# Altium footprint library czc.PcbLib: 157 footprints (part 4 of 10)
Each footprint in its own frame and in the unit in brackets; x right, y up, seen from the top. Pads: shape width x height; smd on the part's side, far side on the other; paste and mask are expansions set on the pad; w line width, h text height; cw(c..) or ccw(c..) is an arc to the next point about the centre after c.
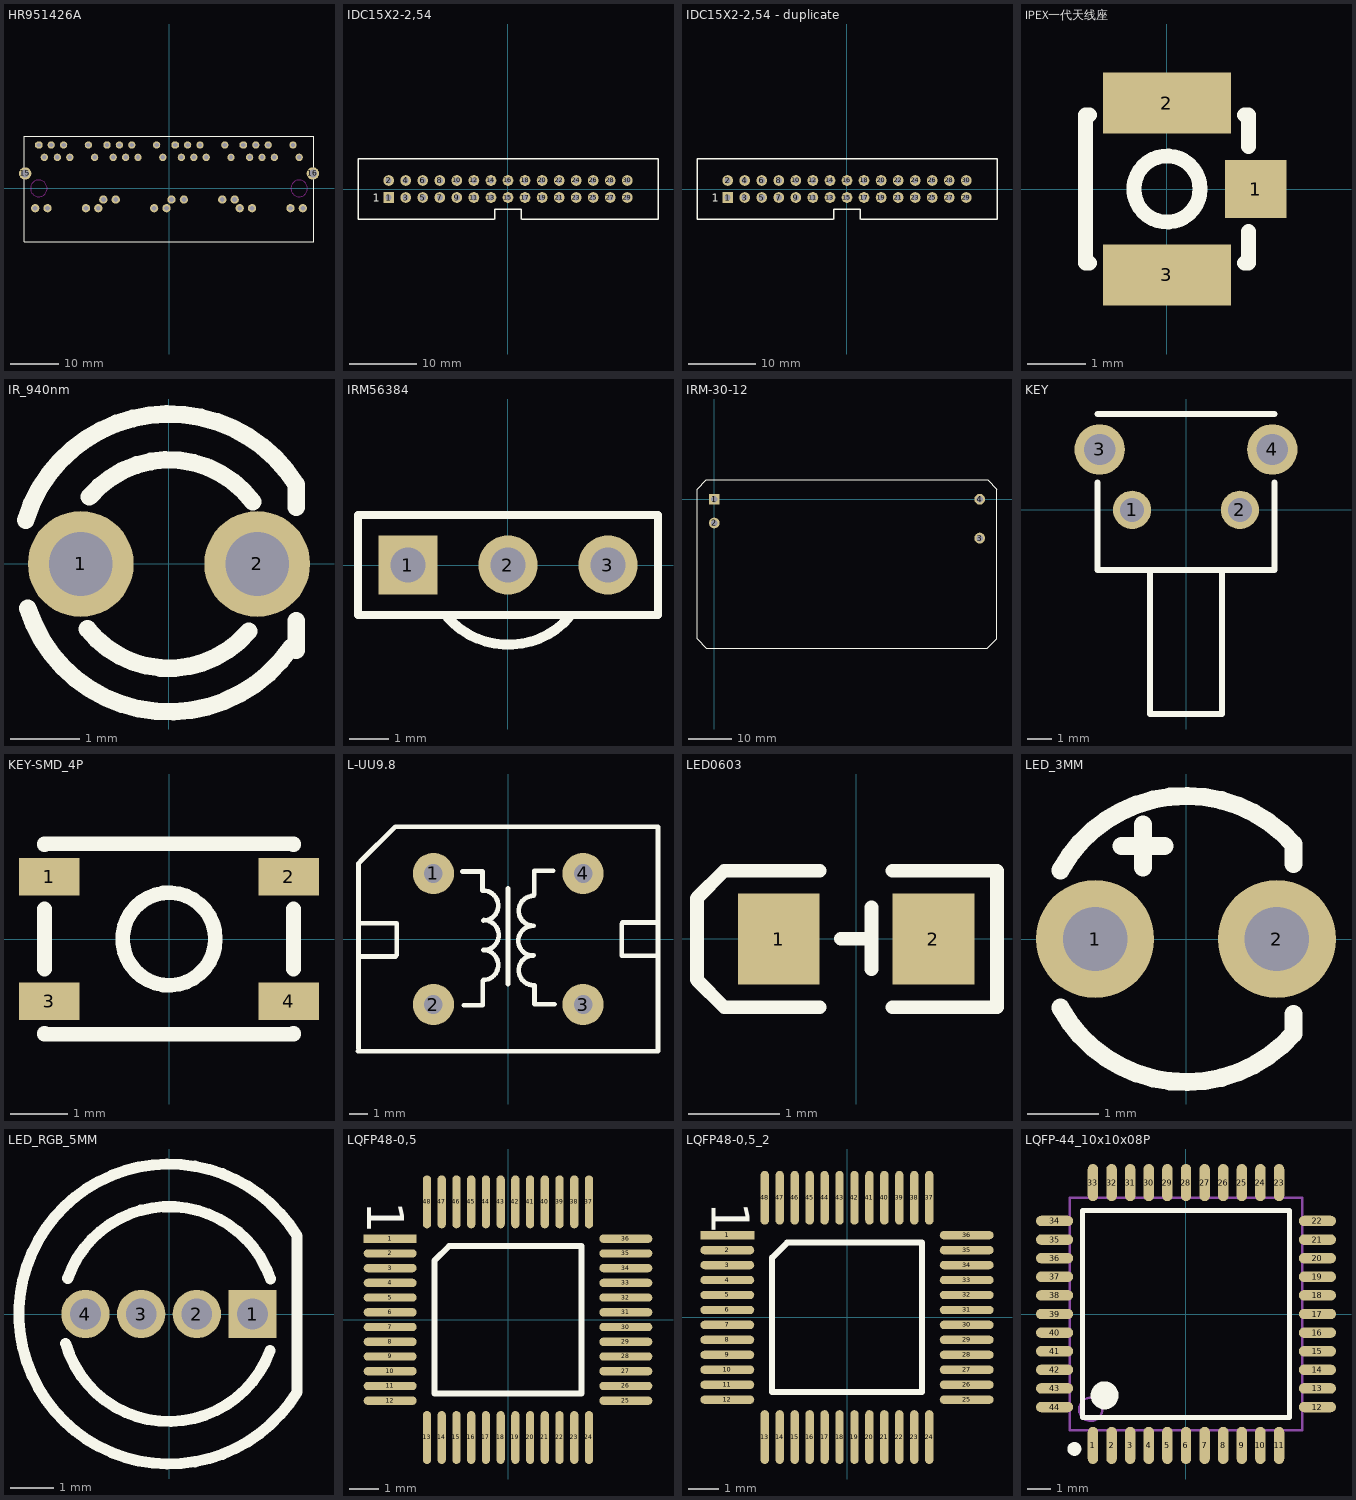
[diagram p3: the footprints below, top view; thin cyan lines are the x and y axes]

## HR951426A [mm] "RJ45*4"
pads (50):
  round 2.54 hole 1.63: 15(-29.455,3.05) 16(29.455,3.05)
  oct 1.5x1.5 hole 0.9: A1(-26.67,8.89) B1(-12.7,8.89) C1(1.27,8.89) D1(15.24,8.89)
  round 1.5 hole 0.9: A2(-25.54,6.351) A3(-24.13,8.89) A4(-22.86,6.351) A5(-21.59,8.89) A6(-20.32,6.351) A9(-16.51,8.89) A10(-15.24,6.351) B2(-11.43,6.351) B3(-10.16,8.89) B4(-8.89,6.351) B5(-7.62,8.89) B6(-6.35,6.351) B9(-2.54,8.89) B10(-1.27,6.351) C2(2.54,6.351) C3(3.81,8.89) C4(5.08,6.351) C5(6.35,8.89) C6(7.62,6.351) C9(11.43,8.89) C10(12.7,6.351) D2(16.51,6.351) D3(17.78,8.89) D4(19.05,6.351) D5(20.32,8.89) D6(21.59,6.351) D9(25.4,8.89) D10(26.67,6.351)
  round 1.7 hole 1: A11(-27.42,-4.06) A12(-24.88,-4.06) A13(-17.02,-4.06) A14(-14.48,-4.06) B11(-13.45,-2.29) B12(-10.91,-2.29) B13(-3.05,-4.06) B14(-0.51,-4.06) C11(0.51,-2.29) C12(3.05,-2.29) C13(10.91,-2.29) C14(13.45,-2.29) D11(14.48,-4.06) D12(17.02,-4.06) D13(24.88,-4.06) D14(27.42,-4.06)
Top Overlay:
  lines w0.254: -29.615,-10.922 -29.615,10.68 29.615,10.68 ; -29.615,-10.92 29.615,-10.92 ; 29.615,-10.934 29.615,10.668
Keep-Out Layer:
  circle w0.1: c26.67,0 r1.7
  circle w0.1: c-26.67,0 r1.7

## IDC15X2-2,54 [mm]
pads (30):
  rect 1.6x1.6 hole 0.9: 1(-17.78,-1.27)
  round 1.6 hole 0.9: 2(-17.78,1.27) 3(-15.24,-1.27) 4(-15.24,1.27) 5(-12.7,-1.27) 6(-12.7,1.27) 7(-10.16,-1.27) 8(-10.16,1.27) 9(-7.62,-1.27) 10(-7.62,1.27) 11(-5.08,-1.27) 12(-5.08,1.27) 13(-2.54,-1.27) 14(-2.54,1.27) 15(0,-1.27) 16(0,1.27) 17(2.54,-1.27) 18(2.54,1.27) 19(5.08,-1.27) 20(5.08,1.27) 21(7.62,-1.27) 22(7.62,1.27) 23(10.16,-1.27) 24(10.16,1.27) 25(12.7,-1.27) 26(12.7,1.27) 27(15.24,-1.27) 28(15.24,1.27) 29(17.78,-1.27) 30(17.78,1.27)
Top Overlay:
  lines w0.2: -2.032,-4.53 -22.35,-4.53 -22.35,4.53 22.352,4.53 22.352,-4.53 2.032,-4.53 ; -2,-4.53 -2,-3.048 2,-3.048 2,-4.53
  text "1" at -20.18,-1.87 h1.2

## IDC15X2-2,54 - duplicate [mm]
pads (30):
  rect 1.6x1.6 hole 0.9: 1(-17.78,-1.27)
  round 1.6 hole 0.9: 2(-17.78,1.27) 3(-15.24,-1.27) 4(-15.24,1.27) 5(-12.7,-1.27) 6(-12.7,1.27) 7(-10.16,-1.27) 8(-10.16,1.27) 9(-7.62,-1.27) 10(-7.62,1.27) 11(-5.08,-1.27) 12(-5.08,1.27) 13(-2.54,-1.27) 14(-2.54,1.27) 15(0,-1.27) 16(0,1.27) 17(2.54,-1.27) 18(2.54,1.27) 19(5.08,-1.27) 20(5.08,1.27) 21(7.62,-1.27) 22(7.62,1.27) 23(10.16,-1.27) 24(10.16,1.27) 25(12.7,-1.27) 26(12.7,1.27) 27(15.24,-1.27) 28(15.24,1.27) 29(17.78,-1.27) 30(17.78,1.27)
Top Overlay:
  lines w0.2: -2.032,-4.53 -22.35,-4.53 -22.35,4.53 22.352,4.53 22.352,-4.53 2.032,-4.53 ; -2,-4.53 -2,-3.048 2,-3.048 2,-4.53
  text "1" at -20.18,-1.87 h1.2

## IPEX一代天线座 [mm]
pads (3):
  rect 1.05x1 smd: 1(1.524,0)
  rect 2.2x1.05 smd: 2(-0.001,1.475) 3(-0.001,-1.475)
Top Overlay:
  circle w0.254: c0,0 r0.568
  lines w0.254: -1.332,-1.27 -1.397,-1.27 -1.397,1.27 -1.332,1.27 ; 1.331,-1.27 1.397,-1.27 1.397,-0.731 ; 1.331,1.27 1.397,1.27 1.397,0.731

## IR_940nm [mil]
pads (2):
  round 60 hole 36: 1(-50,0) 2(50,0)
Top Overlay:
  lines w10: -81.26,24.92 cw(c0,0) 72.06,45.07 72.06,32.26 ; -80,-25 ccw(c0,0) 69.33,-47.11 ; -46.19,-36.85 ccw(c0,0) 45.22,-38.03 ; -45.12,38.07 cw(c0,0) 47.36,35.24 ; 72.06,-48.97 72.06,-32.26

## IRM56384 [mm]
pads (3):
  rect 1.5x1.5 hole 0.9: 1(-2.54,0)
  round 1.5 hole 0.9: 2(0,0) 3(2.54,0)
Top Overlay:
  lines w0.2: -3.81,-1.27 3.81,-1.27 3.81,1.27 -3.81,1.27 -3.81,-1.27
  lines w0.254: -1.542,-1.318 ccw(c0.008,0.026) 1.552,-1.326

## IRM-30-12 [mm] "39*69.5MM"
pads (4):
  rect 2.5x2.5 hole 1.5: 1(0.001,0)
  round 2.5 hole 1.5: 2(0,-5.5) 3(61.5,-9) 4(61.5,0)
Top Overlay:
  lines w0.203: -4,-32.322 -4,2.35 -1.85,4.5 63.318,4.5 65.5,2.318 65.5,-32.29 63.29,-34.5 -1.822,-34.5 -4,-32.322

## KEY [mm] "侧插按键"
pads (4):
  round 1.6 hole 1: 1(-2.25,0) 2(2.25,0)
  round 2.1 hole 1.3: 3(-3.6,2.52) 4(3.6,2.52)
Top Overlay:
  lines w0.254: -3.683,1.143 -3.683,-2.5 3.683,-2.5 3.683,1.143 ; -3.683,4 3.683,4 ; -1.5,-2.54 -1.5,-8.509 1.5,-8.509 1.5,-2.54

## KEY-SMD_4P [mm]
pads (4):
  rect 1.05x0.65 smd: 1(-2.075,1.075) 2(2.075,1.075) 3(-2.075,-1.075) 4(2.075,-1.075)
Top Overlay:
  circle w0.254: c0,0 r0.803
  lines w0.254: -2.159,-1.631 -2.159,-1.651 2.159,-1.651 2.159,-1.631 ; -2.159,-0.519 -2.159,0.519 ; -2.159,1.631 -2.159,1.651 2.159,1.651 2.159,1.631 ; 2.159,-0.519 2.159,0.519

## L-UU9.8 [mm]
pads (4):
  round 2.2 hole 1: 1(-4,3.5) 2(-4,-3.5) 3(4,-3.5) 4(4,3.5)
Top Overlay:
  lines w0.254: -8.026,-5.994 7.976,-5.994 ; -8,-5.851 -8,4.039 ; -7.899,4.14 -6.04,6 7.95,6 ; -7.862,-0.935 -6.008,-0.935 ; -7.836,0.843 -5.957,0.843 ; -5.957,-0.858 -5.957,0.83 ; -2.451,3.602 -1.373,3.602 -1.373,2.586 ; -2.374,-3.536 -1.358,-3.536 -1.358,-2.242 ; -1.333,-2.19 ccw(c-1.333,-1.39) -1.333,-0.59 ; -1.333,0.985 ccw(c-1.333,1.785) -1.333,2.585 ; -1.308,-0.589 ccw(c-1.308,0.211) -1.308,1.011 ; -0.012,-2.418 -0.012,2.713 ; 1.334,-0.894 cw(c1.334,-0.094) 1.334,0.706 ; 1.359,-2.469 cw(c1.359,-1.669) 1.359,-0.869 ; 1.359,0.706 cw(c1.359,1.506) 1.359,2.306 ; 1.385,2.359 1.385,3.652 2.401,3.652 ; 1.399,-2.469 1.399,-3.485 2.477,-3.485 ; 6.058,-0.894 7.938,-0.894 ; 6.058,-0.881 6.058,0.808 ; 6.109,0.884 7.963,0.884 ; 8,-6 8,6

## LED0603 [mm]
pads (2):
  rect 0.9x1 smd: 1(-0.85,0) 2(0.85,0)
Top Overlay:
  lines w0.15: -0.4,-0.75 -1.45,-0.75 -1.75,-0.45 -1.75,-0.35 -1.75,0.35 -1.75,0.45 -1.45,0.75 -0.4,0.75 ; -0.17,0.002 0.17,0.002 ; 0.17,-0.33 0.17,0.35 ; 0.4,-0.75 1.55,-0.75 ; 0.4,0.75 1.55,0.75 ; 1.55,-0.73 1.55,0.75

## LED_3MM [mil]
pads (2):
  round 65 hole 35.43: 1(-50,0) 2(50,0)
Top Overlay:
  lines w10: -69.07,-37.8 ccw(c0,0) 59.05,-52.08 59.05,-41.36 ; -69.07,37.8 cw(c0,0) 59.05,52.08 59.05,41.36 ; -35.43,51.18 -11.81,51.18 ; -23.62,39.37 -23.62,62.99

## LED_RGB_5MM [mm]
pads (4):
  rect 1.1x1.1 hole 0.7: 1(1.905,0)
  round 1.1 hole 0.7: 2(0.635,0) 3(-0.635,0) 4(-1.905,0)
Top Overlay:
  lines w0.254: -2.356,-0.672 ccw(c0,0) 2.302,-0.839 ; -2.31,0.816 cw(c0,0) 2.314,0.805 ; 2.921,-1.778 cw(c0,0) 2.921,1.778 2.921,-1.778

## LQFP48-0,5 [mm]
pads (48):
  rect 1.8x0.28 smd: 1(-4,2.75)
  oval 1.8x0.28 smd: 2(-4,2.25) 3(-4,1.75) 4(-4,1.25) 5(-4,0.75) 6(-4,0.25) 7(-4,-0.25) 8(-4,-0.75) 9(-4,-1.25) 10(-4,-1.75) 11(-4,-2.25) 12(-4,-2.75) 25(4,-2.75) 26(4,-2.25) 27(4,-1.75) 28(4,-1.25) 29(4,-0.75) 30(4,-0.25) 31(4,0.25) 32(4,0.75) 33(4,1.25) 34(4,1.75) 35(4,2.25) 36(4,2.75)
  oval 0.28x1.8 smd: 13(-2.75,-4) 14(-2.25,-4) 15(-1.75,-4) 16(-1.25,-4) 17(-0.75,-4) 18(-0.25,-4) 19(0.25,-4) 20(0.75,-4) 21(1.25,-4) 22(1.75,-4) 23(2.25,-4) 24(2.75,-4) 37(2.75,4) 38(2.25,4) 39(1.75,4) 40(1.25,4) 41(0.75,4) 42(0.25,4) 43(-0.25,4) 44(-0.75,4) 45(-1.25,4) 46(-1.75,4) 47(-2.25,4) 48(-2.75,4)
Top Overlay:
  lines w0.2: -2.5,2 -2.5,-2.5 2.5,-2.5 2.5,2.5 -2,2.5
  lines w0.203: -2.5,2 -2,2.5
  text "1" at -4.773,4.015 h1.27
3D body "User Library-LQFP48.step": height 1.5, standoff 0, extent -4.428,-4.5 4.572,4.5

## LQFP48-0,5_2 [mm]
pads (48):
  rect 1.8x0.28 smd: 1(-4,2.75)
  oval 1.8x0.28 smd: 2(-4,2.25) 3(-4,1.75) 4(-4,1.25) 5(-4,0.75) 6(-4,0.25) 7(-4,-0.25) 8(-4,-0.75) 9(-4,-1.25) 10(-4,-1.75) 11(-4,-2.25) 12(-4,-2.75) 25(4,-2.75) 26(4,-2.25) 27(4,-1.75) 28(4,-1.25) 29(4,-0.75) 30(4,-0.25) 31(4,0.25) 32(4,0.75) 33(4,1.25) 34(4,1.75) 35(4,2.25) 36(4,2.75)
  oval 0.28x1.8 smd: 13(-2.75,-4) 14(-2.25,-4) 15(-1.75,-4) 16(-1.25,-4) 17(-0.75,-4) 18(-0.25,-4) 19(0.25,-4) 20(0.75,-4) 21(1.25,-4) 22(1.75,-4) 23(2.25,-4) 24(2.75,-4) 37(2.75,4) 38(2.25,4) 39(1.75,4) 40(1.25,4) 41(0.75,4) 42(0.25,4) 43(-0.25,4) 44(-0.75,4) 45(-1.25,4) 46(-1.75,4) 47(-2.25,4) 48(-2.75,4)
Top Overlay:
  lines w0.2: -2.5,2 -2.5,-2.5 2.5,-2.5 2.5,2.5 -2,2.5
  lines w0.203: -2.5,2 -2,2.5
  text "1" at -4.519,3.859 h1.27

## LQFP-44_10x10x08P [mm]
pads (44):
  oval 0.45x1.6 smd: 1(-4,-5.65) 2(-3.2,-5.65) 3(-2.4,-5.65) 4(-1.6,-5.65) 5(-0.8,-5.65) 6(0,-5.65) 7(0.8,-5.65) 8(1.6,-5.65) 9(2.4,-5.65) 10(3.2,-5.65) 11(4,-5.65) 23(4,5.65) 24(3.2,5.65) 25(2.4,5.65) 26(1.6,5.65) 27(0.8,5.65) 28(0,5.65) 29(-0.8,5.65) 30(-1.6,5.65) 31(-2.4,5.65) 32(-3.2,5.65) 33(-4,5.65)
  oval 1.6x0.45 smd: 12(5.65,-4) 13(5.65,-3.2) 14(5.65,-2.4) 15(5.65,-1.6) 16(5.65,-0.8) 17(5.65,0) 18(5.65,0.8) 19(5.65,1.6) 20(5.65,2.4) 21(5.65,3.2) 22(5.65,4) 34(-5.65,4) 35(-5.65,3.2) 36(-5.65,2.4) 37(-5.65,1.6) 38(-5.65,0.8) 39(-5.65,0) 40(-5.65,-0.8) 41(-5.65,-1.6) 42(-5.65,-2.4) 43(-5.65,-3.2) 44(-5.65,-4)
Top Overlay:
  circle w0.3: c-4.8,-5.8 r0.15
  circle w0.6: c-3.5,-3.5 r0.3
  lines w0.2: -4.45,-4.45 -4.45,4.45 4.45,4.45 4.45,-4.45 -4.45,-4.45
Mechanical 13:
  circle w0.1: c-4.1,-4.1 r0.5
  lines w0.1: -5,-5 -5,5 5,5 5,-5 -5,-5